# Altium schematic symbol library U_MAX3238.SchLib: 1 symbol
Pins are listed as number, name and electrical type; pins without a type are passive.

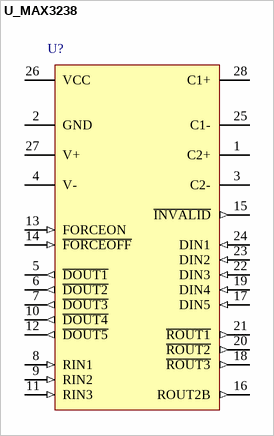
[diagram p0: symbol U_MAX3238]

## U_MAX3238
designator U?
pins: 1 C2+, 2 GND (power), 3 C2-, 4 V-, 5 ~{DOUT1} (out), 6 ~{DOUT2} (out), 7 ~{DOUT3} (out), 8 RIN1 (in), 9 RIN2 (in), 10 ~{DOUT4} (out), 11 RIN3 (in), 12 ~{DOUT5} (out), 13 FORCEON (in), 14 ~{FORCEOFF} (in), 15 ~{INVALID} (out), 16 ROUT2B (out), 17 DIN5 (in), 18 ~{ROUT3} (out), 19 DIN4 (in), 20 ~{ROUT2} (out), 21 ~{ROUT1} (out), 22 DIN3 (in), 23 DIN2 (in), 24 DIN1 (in), 25 C1-, 26 VCC, 27 V+, 28 C1+